# EAGLE library part 4609X-101-103LF (library Resistor Array)
RES ARRAY 8 RES 10K OHM 9SIP Manufacturer's datasheet <https://www.bourns.com/docs/Product-Datasheets/4600x.pdf>
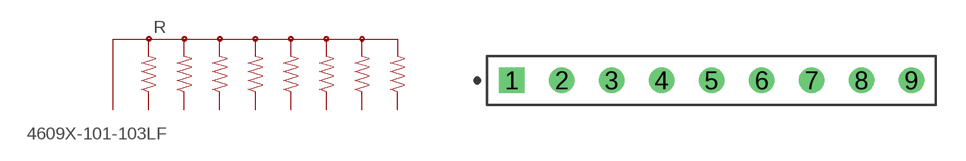
[diagram p1: symbol with the pads of 4609X-101-103LF; footprint 4609X-101-103LF]

Designator prefix R

## 4609X-101-103LF (CREATED_BY: PCBLayout.com; DIGIKEY_PN: 4609X-101-103LF-ND; MANUFACTURER: Bourns Inc.; MPN: 4609X-101-103LF; PACKAGE: SIP-9)  [4609X-101-103LF]
1  1  pas
2  2  pas
3  3  pas
4  4  pas
5  5  pas
6  6  pas
7  7  pas
8  8  pas
9  9  pas

## Footprint 4609X-101-103LF (pad centres in mm)
drill 0.8 square: 1 0,0
drill 0.8: 2 2.54,0; 3 5.08,0; 4 7.62,0; 5 10.16,0; 6 12.7,0; 7 15.24,0; 8 17.78,0; 9 20.32,0